# Altium footprint library g-HEADER_5x2I.05P_SM.PcbLib: 1 footprints
Each footprint in its own frame and in the unit in brackets; x right, y up, seen from the top. Pads: shape width x height; smd on the part's side, far side on the other; paste and mask are expansions set on the pad; w line width, h text height; cw(c..) or ccw(c..) is an arc to the next point about the centre after c.
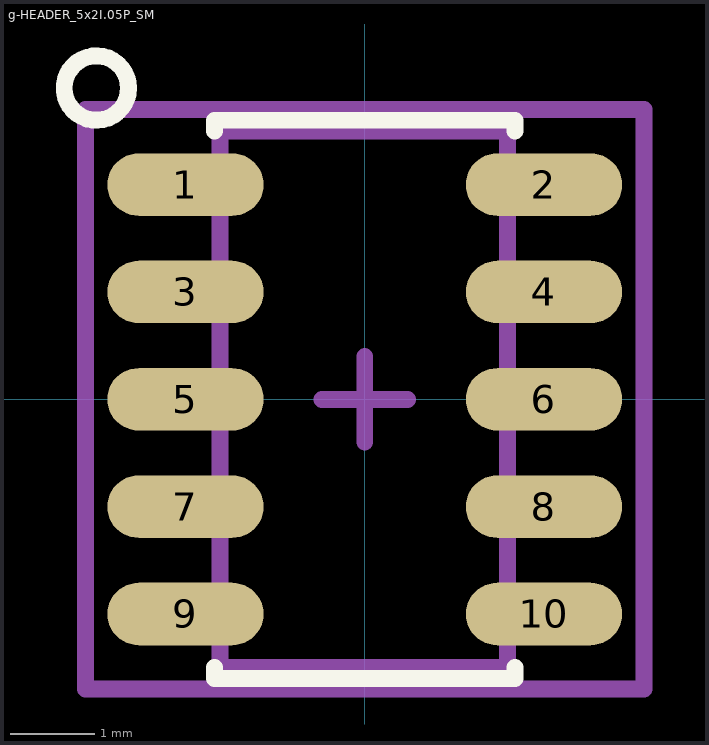
[diagram p0: the footprint, top view; thin cyan lines are the x and y axes]

## g-HEADER_5x2I.05P_SM [mm] "Header; 5x2 .05'' Pitch, SMD"
height 5
pads (10):
  oval 1.85x0.74 smd: 1(-2.121,2.54) 2(2.121,2.54) 3(-2.121,1.27) 4(2.121,1.27) 5(-2.121,0) 6(2.121,0) 7(-2.121,-1.27) 8(2.121,-1.27) 9(-2.121,-2.54) 10(2.121,-2.54)
Top Overlay:
  circle w0.2: c-3.175,3.683 r0.381
  lines w0.2: -1.778,-3.175 -1.778,-3.302 1.778,-3.302 1.778,-3.175 ; -1.778,3.175 -1.778,3.302 1.778,3.302 1.778,3.175
Mechanical 13:
  lines w0.2: -1.714,-3.175 -1.714,3.175 1.689,3.175 1.689,-3.175 -1.714,-3.175
Mechanical 15:
  lines w0.2: -0.508,0 0.508,0 ; 0,-0.508 0,0.508 ; -3.302,-3.429 3.302,-3.429 3.302,3.429 -3.302,3.429 -3.302,-3.429
3D body: height 4.48, standoff -0.02, extent -2.706,-3.175 2.794,3.175